# Altium footprint library Pattern No3d 20090609.PcbLib: 323 footprints (part 1 of 22)
Each footprint in its own frame and in the unit in brackets; x right, y up, seen from the top. Pads: shape width x height; smd on the part's side, far side on the other; paste and mask are expansions set on the pad; w line width, h text height; cw(c..) or ccw(c..) is an arc to the next point about the centre after c.
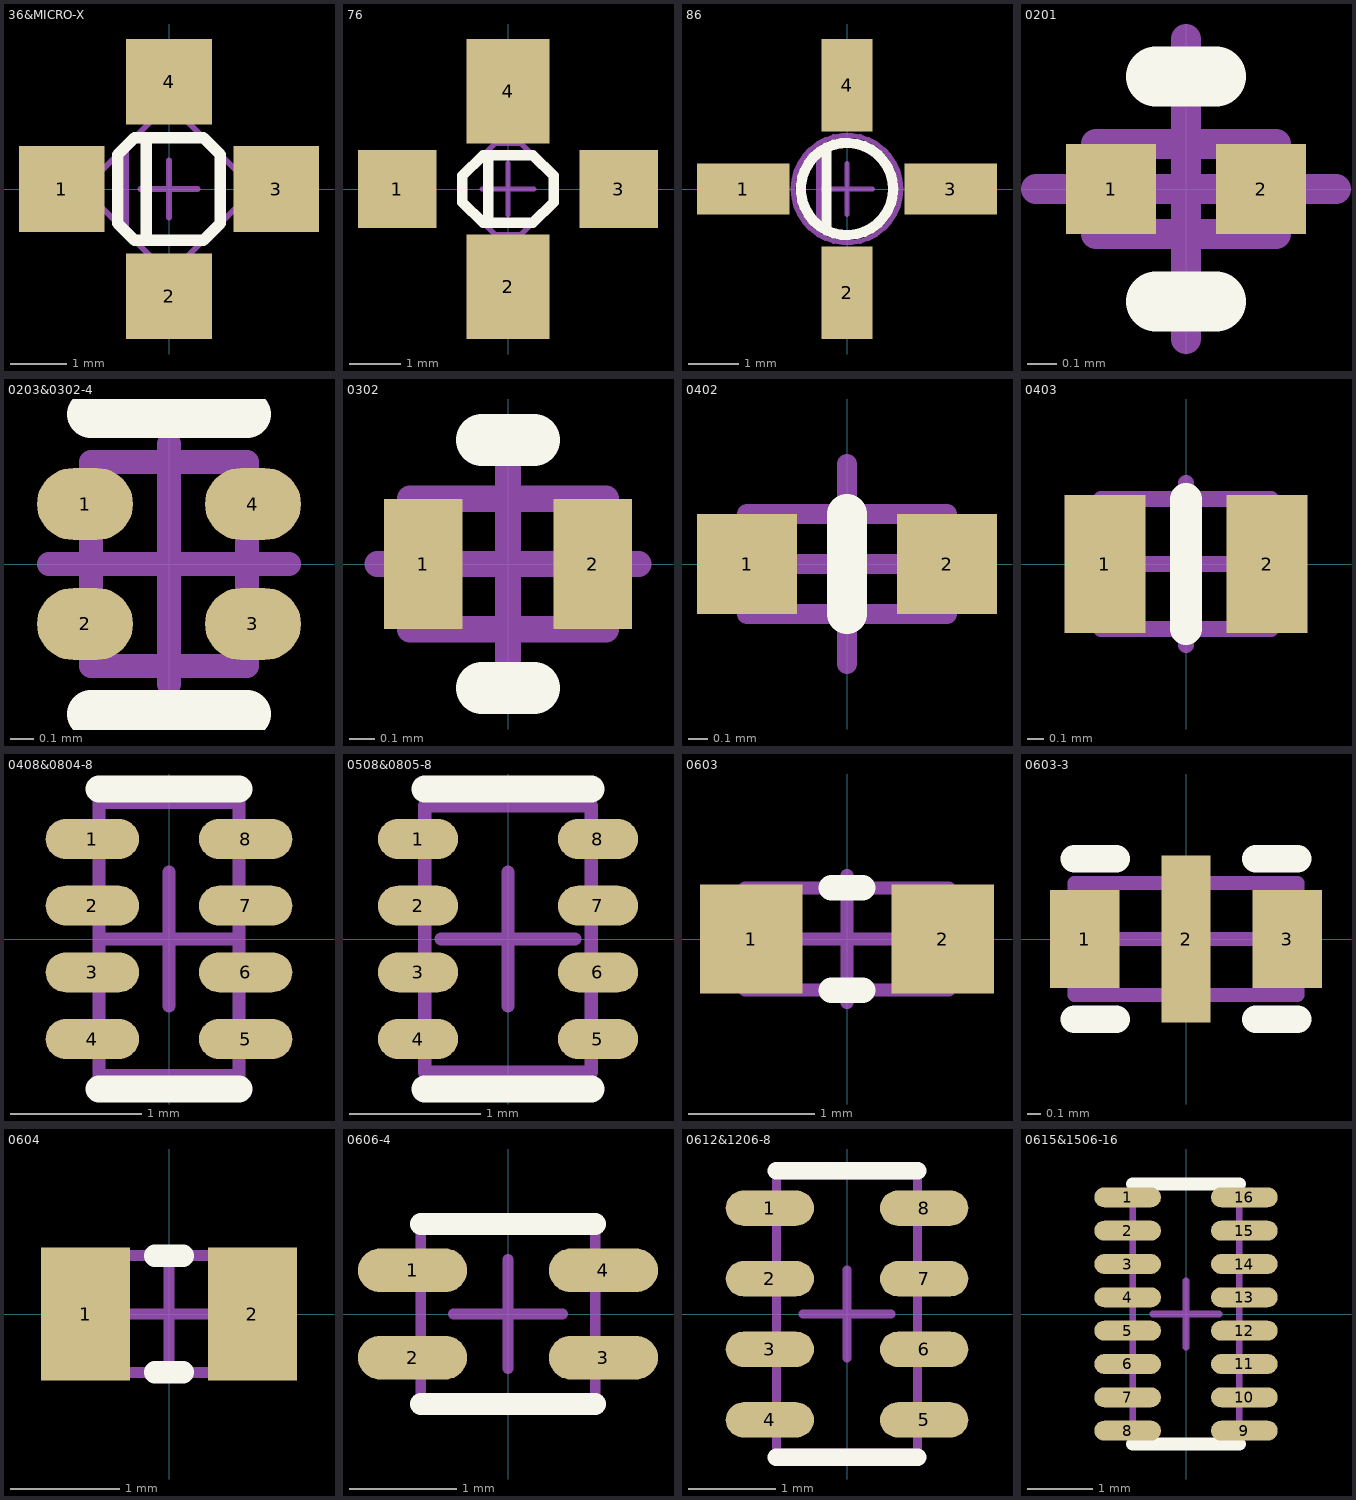
[diagram p0: the footprints below, top view; thin cyan lines are the x and y axes]

## 36&MICRO-X [mil] "http://www.secomtel.com/UpFilesPDF/PDF/Agilent/PDF_DOCS/VCOS/11_PKG/11_01_15.PDF (36: Short Lead micro-X)"
pads (4):
  rect 60x60 smd mask+4: 1(-75,0) 2(0,-75) 3(75,0) 4(0,75)
Top Overlay:
  lines w8: -16,-36 -16,36 ; -36,-24 -36,24 -24,36 24,36 36,24 36,-24 24,-36 -24,-36 -36,-24
Mechanical 1:
  lines w4: -30,-30 -30,30 ; -50,-10 -50,10 -10,50 10,50 50,10 50,-10 10,-50 -10,-50 -50,-10
Mechanical 15:
  lines w4: -20,0 20,0 ; 0,-20 0,20

## 76 [mil] "http://www.secomtel.com/UpFilesPDF/PDF/Agilent/PDF_DOCS/VCOS/11_PKG/11_01_15.PDF (76:)"
pads (4):
  rect 60x60 smd mask+4: 1(-85,0) 3(85,0)
  rect 64x80 smd mask+4: 2(0,-75) 4(0,75)
Top Overlay:
  lines w8: -15,-26 -15,26 ; -35,-10 -19,-26 19,-26 35,-10 35,10 19,26 -19,26 -35,10 -35,-10
Mechanical 1:
  lines w4: -15,-30 -15,30 ; -35,-10 -10,-35 10,-35 35,-10 35,10 10,35 -10,35 -35,10 -35,-10
Mechanical 15:
  lines w4: -20,0 20,0 ; 0,-20 0,20

## 86 [mil] "http://www.secomtel.com/UpFilesPDF/PDF/Agilent/PDF_DOCS/VCOS/11_PKG/11_01_15.PDF (86:)"
pads (4):
  rect 72x40 smd mask+4: 1(-81,0) 3(81,0)
  rect 40x72 smd mask+4: 2(0,-81) 4(0,81)
Top Overlay:
  circle w8: c0,0 r36
  lines w8: -16,-32 -16,32
Mechanical 1:
  circle w4: c0,0 r42
  lines w4: -22,-35 -22,35
Mechanical 15:
  lines w4: -20,0 20,0 ; 0,-20 0,20

## 0201 [mil] "http://www.yageo.com/pdf/NP0_X7R_Y5V_0201_1.pdf http://www.garrettelec.com/manu_specs/PHYC9c0201-f.pdf"
pads (2):
  rect 12x12 smd mask+4: 1(-10,0) 2(10,0)
Top Overlay:
  lines w8: -4,-15 4,-15 ; -4,15 4,15
Mechanical 1:
  lines w4: -12,-6 -12,6 12,6 12,-6 -12,-6
Mechanical 15:
  lines w4: -20,0 20,0 ; 0,-20 0,20

## 0203&0302-4 [mil] "http://industrial.panasonic.com/ww/news_e/nr200810MC101_e/nr200810MC101_e/387em.pdf"
pads (4):
  oval 16x12 smd mask-1000: 1(-14,10) 2(-14,-10) 3(14,-10) 4(14,10)
Top Overlay:
  lines w8: -13,-25 13,-25 ; -13,25 13,25
Top Solder:
  lines w16: -17,-11 -11,-11 ; -17,11 -11,11 ; 11,-11 17,-11 ; 11,11 17,11
Mechanical 1:
  lines w4: -13,-17 13,-17 13,17 -13,17 -13,-17
Mechanical 15:
  lines w4: -20,0 20,0 ; 0,-20 0,20

## 0302 [mil] "http://www.vishay.com/docs/53017/p.pdf (Case 0302) http://www.electronics.teipir.gr/PersonalPages/papageorgas/download/2/data_sheets/crseng_neu.pdf"
pads (2):
  rect 12x20 smd mask-1000: 1(-13,0) 2(13,0)
Top Overlay:
  lines w8: -4,-19 4,-19 ; -4,19 4,19
Top Solder:
  region: 23,-14 23,14 -23,14 -23,-14
Mechanical 1:
  lines w4: -15,-10 -15,10 15,10 15,-10 -15,-10
Mechanical 15:
  lines w4: -20,0 20,0 ; 0,-20 0,20

## 0402 [mil] "http://www.vishay.com/docs/60031/m.pdf (Case 0402) http://www.yageo.com/pdf/NP0_50-to-500V_10.pdf (Case 0402)"
pads (2):
  rect 20x20 smd mask+4: 1(-20,0) 2(20,0)
Top Overlay:
  lines w8: 0,-10 0,10
Mechanical 1:
  lines w4: -20,-10 20,-10 20,10 -20,10 -20,-10
Mechanical 15:
  lines w4: -20,0 20,0 ; 0,-20 0,20

## 0403 [mil] "http://www.koaeurope.de/at/koa/pdf/kqc.pdf (Case 0403) http://www.johansontechnology.com/images/stories/legacy/porcelain-substituete/JTI_Porcelain-NPO_10-01.pdf (Case 0403)"
pads (2):
  rect 20x34 smd mask+4: 1(-20,0) 2(20,0)
Top Overlay:
  lines w8: 0,-16 0,16
Mechanical 1:
  lines w4: -21,-16 -21,16 21,16 21,-16 -21,-16
Mechanical 15:
  lines w4: -20,0 20,0 ; 0,-20 0,20

## 0408&0804-8 [mil] "http://www.bourns.com/data/global/pdfs/CAT10.pdf"
pads (8):
  oval 28x12 smd mask-1000: 1(-23,30) 2(-23,10) 3(-23,-10) 4(-23,-30) 5(23,-30) 6(23,-10) 7(23,10) 8(23,30)
Top Overlay:
  lines w8: -21,-45 21,-45 ; -21,45 21,45
Top Solder:
  lines w14: -34,-10 -12,-10 ; -34,10 -12,10 ; 12,-10 34,-10 ; 12,10 34,10
  lines w16: -33,-31 -13,-31 ; -33,31 -13,31 ; 13,-31 33,-31 ; 13,31 33,31
Mechanical 1:
  lines w4: -21,-41 -21,41 21,41 21,-41 -21,-41
Mechanical 15:
  lines w4: -20,0 20,0 ; 0,-20 0,20

## 0508&0805-8 [mil] "http://www.szbdy.com.cn/lxadmin/UPFILE/200852017614546.pdf"
pads (8):
  oval 24x12 smd mask-1000: 1(-27,30) 2(-27,10) 3(-27,-10) 4(-27,-30) 5(27,-30) 6(27,-10) 7(27,10) 8(27,30)
Top Overlay:
  lines w8: -25,-45 25,-45 ; -25,45 25,45
Top Solder:
  lines w14: -36,-10 -18,-10 ; -36,10 -18,10 ; 18,-10 36,-10 ; 18,10 36,10
  lines w16: -35,-31 -19,-31 ; -35,31 -19,31 ; 19,-31 35,-31 ; 19,31 35,31
Mechanical 1:
  lines w4: -25,-40 25,-40 25,40 -25,40 -25,-40
Mechanical 15:
  lines w4: -20,0 20,0 ; 0,-20 0,20

## 0603 [mil] "http://www.vishay.com/docs/60031/m.pdf (Case 0603) http://www.yageo.com/pdf/NP0_50-to-500V_10.pdf (Case 0603)"
pads (2):
  rect 32x34 smd mask+4: 1(-30,0) 2(30,0)
Top Overlay:
  lines w8: -5,-16 5,-16 ; -5,16 5,16
Mechanical 1:
  lines w4: -32,-16 -32,16 32,16 32,-16 -32,-16
Mechanical 15:
  lines w4: -20,0 20,0 ; 0,-20 0,20

## 0603-3 [mil] "http://www.yageo.com/pdf/X2Y_series_12.pdf (Case 0603)"
pads (3):
  rect 20x28 smd mask-1000: 1(-29,0) 3(29,0)
  rect 14x48 smd mask-1000: 2(0,0)
Top Overlay:
  lines w8: -32,-23 -20,-23 ; -32,23 -20,23 ; 20,-23 32,-23 ; 20,23 32,23
Top Solder:
  region: 11,-28 11,-18 43,-18 43,18 11,18 11,28 -11,28 -11,18 -43,18 -43,-18 -11,-18 -11,-28
Mechanical 1:
  lines w4: -32,-16 32,-16 32,16 -32,16 -32,-16
Mechanical 15:
  lines w4: -20,0 20,0 ; 0,-20 0,20

## 0604 [mil] "http://www.coilcraft.com/pdfs/0604hq.pdf"
pads (2):
  rect 32x48 smd mask+4: 1(-30,0) 2(30,0)
Top Overlay:
  lines w8: -5,-21 5,-21 ; -5,21 5,21
Mechanical 1:
  lines w4: -32,-21 -32,21 32,21 32,-21 -32,-21
Mechanical 15:
  lines w4: -20,0 20,0 ; 0,-20 0,20

## 0606-4 [mil] "http://www.bourns.com/data/global/pdfs/CATCAY.pdf (CAT16-J2)"
pads (4):
  oval 40x16 smd mask+4: 1(-35,16) 2(-35,-16) 3(35,-16) 4(35,16)
Top Overlay:
  lines w8: -32,-33 32,-33 ; -32,33 32,33
Mechanical 1:
  lines w4: -32,-32 -32,32 32,32 32,-32 -32,-32
Mechanical 15:
  lines w4: -20,0 20,0 ; 0,-20 0,20

## 0612&1206-8 [mil] "http://www.yageo.com/pdf/C-Array_X7R_16V_25V_50V_0612_6.pdf http://www.bourns.com/data/global/pdfs/CAT16LV2F6.pdf"
pads (8):
  oval 40x16 smd mask+4: 1(-35,48) 2(-35,16) 3(-35,-16) 4(-35,-48) 5(35,-48) 6(35,-16) 7(35,16) 8(35,48)
Top Overlay:
  lines w8: -32,-65 32,-65 ; -32,65 32,65
Mechanical 1:
  lines w4: -32,-63 -32,63 32,63 32,-63 -32,-63
Mechanical 15:
  lines w4: -20,0 20,0 ; 0,-20 0,20

## 0615&1506-16 [mil] "http://www.bourns.com/data/global/pdfs/CATCAY.pdf (CAY16-J8)"
pads (16):
  oval 40x12 smd mask-1000: 1(-35,70) 2(-35,50) 3(-35,30) 4(-35,10) 5(-35,-10) 6(-35,-30) 7(-35,-50) 8(-35,-70) 9(35,-70) 10(35,-50) 11(35,-30) 12(35,-10) 13(35,10) 14(35,30) 15(35,50) 16(35,70)
Top Overlay:
  lines w8: -32,-78 32,-78 ; -32,78 32,78
Top Solder:
  lines w14: -52,-50 -18,-50 ; -52,-30 -18,-30 ; -52,-10 -18,-10 ; -52,10 -18,10 ; -52,30 -18,30 ; -52,50 -18,50 ; 18,-50 52,-50 ; 18,-30 52,-30 ; 18,-10 52,-10 ; 18,10 52,10 ; 18,30 52,30 ; 18,50 52,50
  lines w16: -51,-71 -19,-71 ; -51,71 -19,71 ; 19,-71 51,-71 ; 19,71 51,71
Mechanical 1:
  lines w4: -32,-78 -32,78 32,78 32,-78 -32,-78
Mechanical 15:
  lines w4: -20,0 20,0 ; 0,-20 0,20